# EAGLE library part TPHEADER (library AzureSphere)
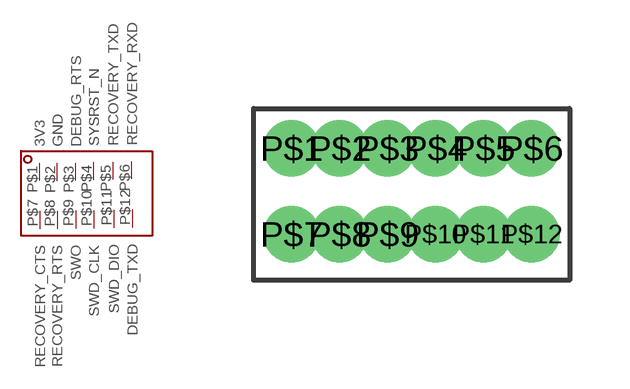
[diagram p2: symbol with the pads of TPHEADER; footprint TPHEADER]

Designator prefix TP

## TPHEADER  [TPHEADER]
P$1  3V3
P$2  GND
P$3  DEBUG_RTS
P$4  SYSRST_N
P$5  RECOVERY_TXD
P$6  RECOVERY_RXD
P$7  RECOVERY_CTS
P$8  RECOVERY_RTS
P$9  SWO
P$10  SWD_CLK
P$11  SWD_DIO
P$12  DEBUG_TXD

## Footprint TPHEADER (pad centres in mm)
drill 0.9 pad 1: P$1 -3,1.05; P$2 -1.8,1.05; P$3 -0.6,1.05; P$4 0.6,1.05; P$5 1.8,1.05; P$6 3,1.05; P$7 -3,-1.1; P$8 -1.8,-1.1; P$9 -0.6,-1.1; P$10 0.6,-1.1; P$11 1.8,-1.1; P$12 3,-1.1